# Altium footprint library Urukul.PcbLib: 1 footprints
Each footprint in its own frame and in the unit in brackets; x right, y up, seen from the top. Pads: shape width x height; smd on the part's side, far side on the other; paste and mask are expansions set on the pad; w line width, h text height; cw(c..) or ccw(c..) is an arc to the next point about the centre after c.
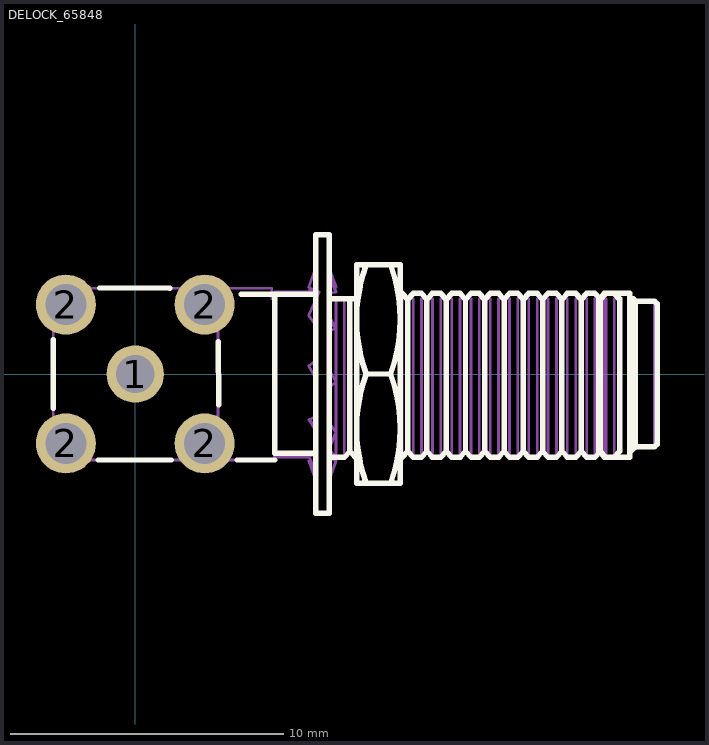
[diagram p0: the footprint, top view; thin cyan lines are the x and y axes]

## DELOCK_65848 [mm]
pads (5):
  round 2.1 hole 1.4: 1(0,0)
  round 2.2 hole 1.5: 2(-2.54,-2.54) 2(-2.54,2.54) 2(2.54,-2.54) 2(2.54,2.54)
Top Overlay:
  lines w0.2: -3,-1.25 -3,1.248 ; -1.359,-3.148 1.324,-3.148 ; -1.295,3.148 1.27,3.134 ; 3.04,1.175 3.06,-1.125 ; 3.734,-3.148 5.1,-3.148 ; 3.873,2.925 6.6,2.925 ; 5.1,2.925 5.1,-2.9 6.6,-2.9 ; 7.1,-3.05 7.655,-3.05 7.855,-2.825 ; 7.1,2.75 8.1,2.75 ; 7.855,2.75 7.855,-2.825 ; 8.1,-3.05 8.056,-3.05 7.855,-2.825 ; 8.457,-4 cw(c13.877,-2) 8.457,0 ; 8.457,4 ccw(c13.877,2) 8.457,0 ; 9.343,-4 ccw(c3.923,-2) 9.343,0 ; 9.343,4 cw(c3.923,2) 9.343,0 ; 9.7,-3.05 9.771,-3.05 9.972,-2.825 ; 9.7,2.95 9.771,2.95 9.972,2.725 10.173,2.95 10.477,2.95 10.678,2.725 10.878,2.95 11.182,2.95 11.383,2.725 11.584,2.95 11.888,2.95 12.089,2.725 12.289,2.95 12.593,2.95 12.794,2.725 12.995,2.95 13.299,2.95 13.5,2.725 13.701,2.95 14.005,2.95 14.205,2.725 14.406,2.95 14.71,2.95 14.911,2.725 15.112,2.95 15.416,2.95 15.616,2.725 15.817,2.95 16.121,2.95 16.322,2.725 16.523,2.95 16.827,2.95 17.028,2.725 17.228,2.95 17.532,2.95 17.733,2.725 ; 9.972,2.75 9.972,-2.825 ; 10.678,2.75 10.678,-2.825 ; 11.383,2.75 11.383,-2.825 ; 12.089,2.75 12.089,-2.825 ; 12.794,2.75 12.794,-2.825 ; 13.5,2.75 13.5,-2.825 ; 14.205,2.75 14.205,-2.825 ; 14.911,2.75 14.911,-2.825 ; 15.616,2.75 15.616,-2.825 ; 16.322,2.75 16.322,-2.825 ; 16.972,2.725 17.173,2.95 18.107,2.95 18.107,-2.85 ; 16.972,2.75 16.972,-2.825 17.173,-3.05 18.107,-3.05 18.107,2.75 ; 17.028,2.75 17.028,-2.825 ; 17.733,2.75 17.733,-2.825 17.532,-3.05 17.228,-3.05 17.028,-2.825 ; 18.107,-2.858 18.3,-2.675 18.3,2.675 18.221,2.75 ; 18.3,-2.665 19,-2.665 19.1,-2.565 19.1,2.565 19,2.665 18.3,2.665 ; 8.457,0 9.343,0 ; 9.972,-2.825 10.173,-3.05 10.477,-3.05 10.678,-2.825 ; 10.678,-2.825 10.878,-3.05 11.182,-3.05 11.383,-2.825 ; 11.383,-2.825 11.584,-3.05 11.888,-3.05 12.089,-2.825 ; 12.089,-2.825 12.289,-3.05 12.593,-3.05 12.794,-2.825 ; 12.794,-2.825 12.995,-3.05 13.299,-3.05 13.5,-2.825 ; 13.5,-2.825 13.701,-3.05 14.005,-3.05 14.205,-2.825 ; 14.205,-2.825 14.406,-3.05 14.71,-3.05 14.911,-2.825 ; 14.911,-2.825 15.112,-3.05 15.416,-3.05 15.616,-2.825 ; 15.616,-2.825 15.817,-3.05 16.121,-3.05 16.322,-2.825 ; 16.322,-2.825 16.523,-3.05 16.827,-3.05 17.028,-2.825 ; 6.6,-5.1 7.1,-5.1 7.1,5.1 6.6,5.1 6.6,-5.1 ; 8.1,-4 9.7,-4 9.7,4 8.1,4 8.1,-4
Mechanical 8:
  lines w0.1: -3.2,-2.03 -2.03,-2.03 ; -3.2,2.03 -2.03,2.03 ; -3.04,-2.54 -2.54,-2.54 ; -3.04,2.54 -2.54,2.54 ; -2.54,-3.04 -2.54,-2.54 ; -2.54,-2.04 -2.54,-2.54 ; -2.54,2.04 -2.54,2.54 ; -2.54,3.04 -2.54,2.54 ; -2.04,-2.54 -2.54,-2.54 ; -2.04,2.54 -2.54,2.54 ; -0.5,0 0,0 ; 0,-0.5 0,0 ; 0,0.5 0,0 ; 0.5,0 0,0 ; 2.03,2.03 3,2.03 ; 2.04,-2.54 2.54,-2.54 ; 2.04,2.54 2.54,2.54 ; 2.54,-3.04 2.54,-2.54 ; 2.54,-2.04 2.54,-2.54 ; 2.54,2.04 2.54,2.54 ; 2.54,3.04 2.54,2.54 ; 3.04,-2.54 2.54,-2.54 ; 3.04,2.54 2.54,2.54
Mechanical 14:
  drawing of 155 lines, arcs and shapes, not listed
3D body "SMA_Delock_65848.step": height 9.15, standoff -2.99, extent -3.04,-3.174 18.96,3.094